# Altium schematic symbol library Modulebit_open_V0.4.SCHLIB: 40 symbols
Pins are listed as number, name and electrical type; pins without a type are passive.

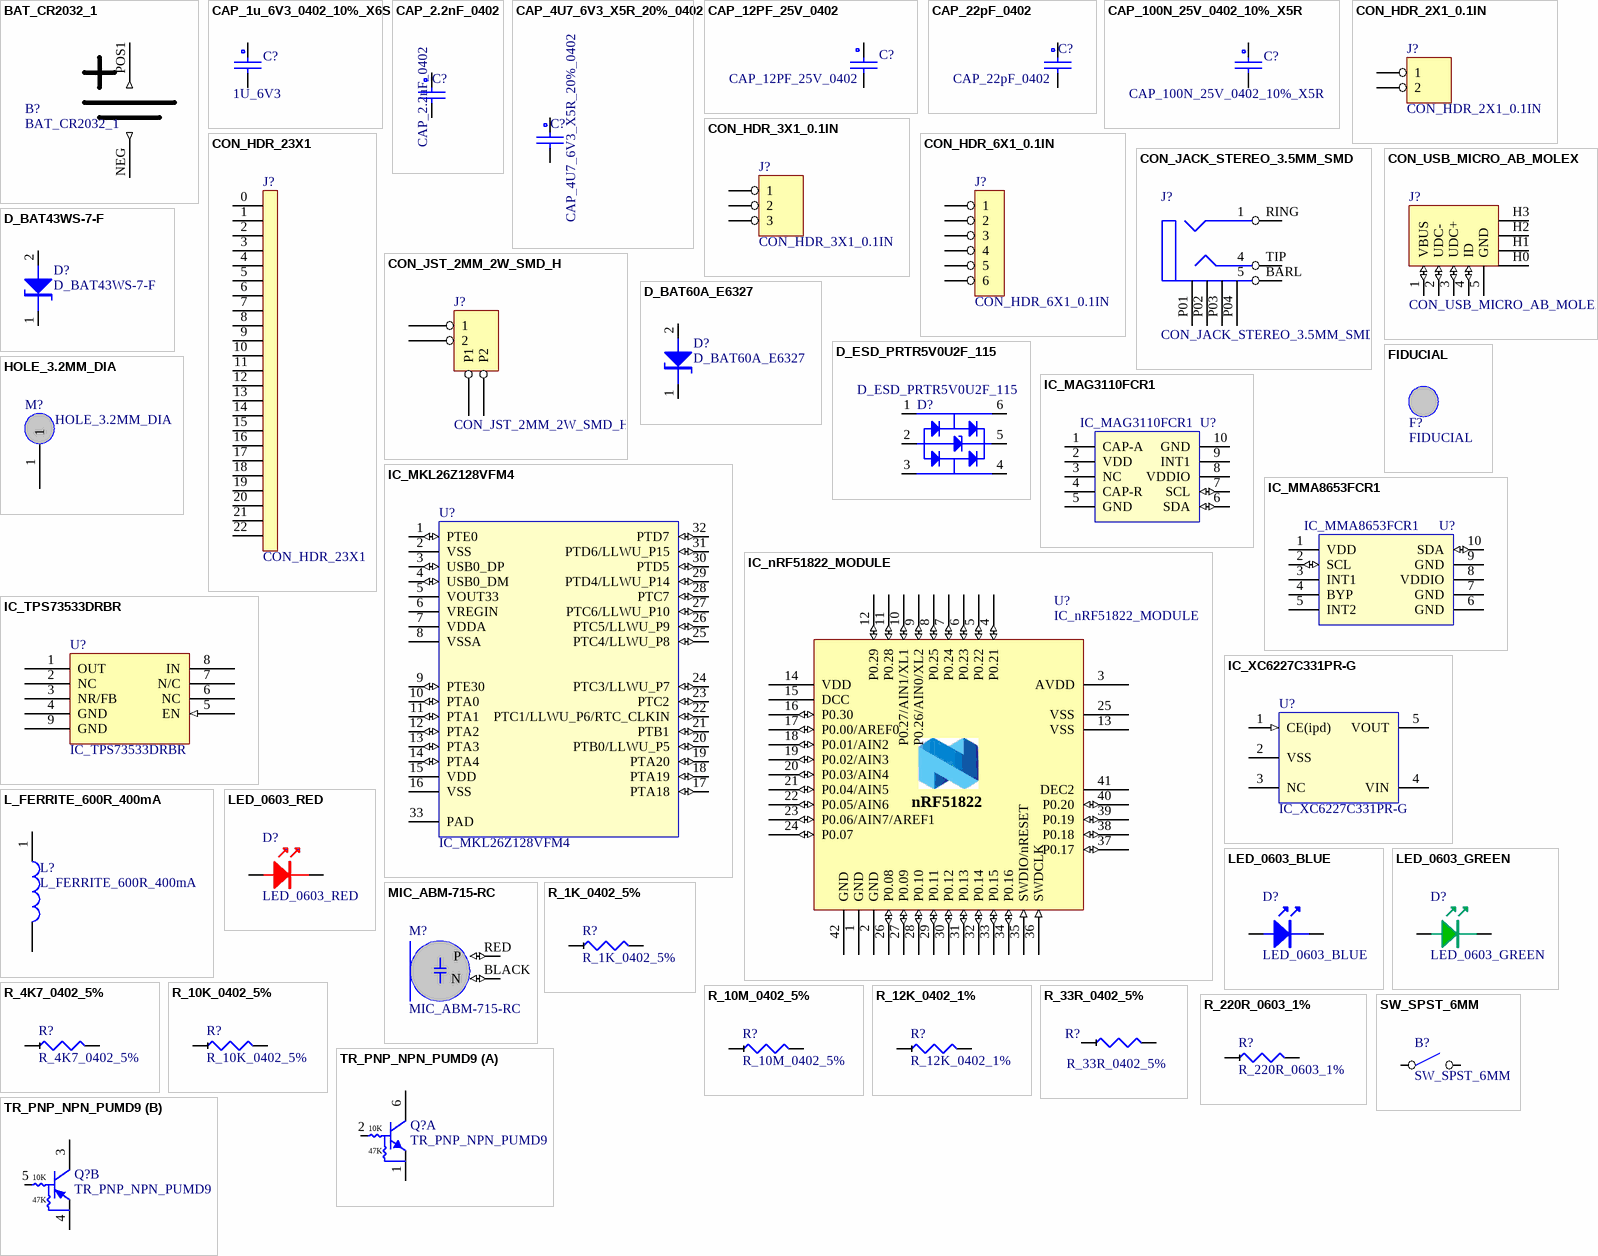
[diagram p0: symbols BAT_CR2032_1 to TR_PNP_NPN_PUMD9]

## BAT_CR2032_1
designator B?
CR2032 battery in holder; PART: CH7410-2032LF; MANUFACTURER: Takachi Electric Industrial; RS: 239-592; FARNELL: 2064724
footprint BAT_CR2032_CH7410-2032LF (PLASTIC CR2032 HOLDER)
pins: NEG (out), POS1 (out)
2 alternate drawings of the same symbol

## CAP_1u_6V3_0402_10%_X6S
designator C?, comment 1U_6V3
CAP_1u_6V3_0402_10%_X6S; MANUFACTURER: YAGEO; PART: CC0402KRX7R7BB104; FARNELL: 9402047RL; MOUSER: 603-CC402KRX7R7BB104; DIGIKEY: 311-1338-6-ND
footprint C_0402
pins: 1, 2
2 alternate drawings of the same symbol

## CAP_2.2nF_0402
designator C?
PART: GRM155R71H222KA01D; MANUFACTURER: MURATA; FARNELL: 1889208RL
footprint C_0402
pins: 1, 2
2 alternate drawings of the same symbol

## CAP_4U7_6V3_X5R_20%_0402
designator C?
PART: C1005X5R0J475M; MANUFACTURER: TDK; FARNELL: 1962109
footprint C_0805
footprint c_0402
pins: 1, 2
2 alternate drawings of the same symbol

## CAP_12PF_25V_0402
designator C?
FARNELL: 1414576
footprint C_0402
pins: 1, 2
2 alternate drawings of the same symbol

## CAP_22pF_0402
designator C?
CAP 0402 C0G 50V 22PF; PART: 04025A220JAT2A; MANUFACTURER: AVX; FARNELL: 1327634RL
footprint c_0402
pins: 1, 2
2 alternate drawings of the same symbol

## CAP_100N_25V_0402_10%_X5R
designator C?
PART: TMK105BJ104KV-F; MANUFACTURER: TAIYO YUDEN; FARNELL: 1611916
footprint C_0402
pins: 1, 2
2 alternate drawings of the same symbol

## CON_HDR_2X1_0.1IN
designator J?
2 PIN HEADER; MANUFACTURER: TE CONNECTIVITY / AMP; PART: 825433-2; FARNELL: 3417645
footprint CON_HDR_2X1
pins: 1, 2
2 alternate drawings of the same symbol

## CON_HDR_3X1_0.1IN
designator J?
3 PIN HEADER; MANUFACTURER: MOLEX; FARNELL: 9731083; PART: 22-03-2031
footprint CON_HDR_3X1
pins: 1, 2, 3
2 alternate drawings of the same symbol

## CON_HDR_6X1_0.1IN
designator J?
6 PIN HEADER; PART: 826629-6; MANUFACTURER: TE; FARNELL: 3418327
footprint CON_HDR_6X1
pins: 1, 2, 3, 4, 5, 6
2 alternate drawings of the same symbol

## CON_HDR_23X1
designator J?
0.1in HEADER STRIP 23X1; PART: TSW-123-07-T-S; MANUFACTURER: SAMTEC; FARNELL: 2035705
footprint CON_HDR_23X1 (Footprint not found)
footprint CON_HDR_8X2_POL
pins: 0 (power), 1 (power), 2 (power), 3, 4, 5, 6, 7, 8, 9, 10, 11, 12, 13, 14, 15, 16, 17, 18, 19, 20, 21, 22
2 alternate drawings of the same symbol

## CON_JACK_STEREO_3.5MM_SMD
designator J?
3.5 MM STEREO SMT JACK SOCKET SMD; PART: 1503 03; MANUFACTURER: LUMBERG; FARNELL: 1216980
footprint CON_JACK_STEREO_3.5MM_SMT (CON_JACK_STEREO_SMT)
pins: BARL, P01, P02, P03, P04, RING, TIP
2 alternate drawings of the same symbol
text: 1; 4; 5

## CON_JST_2MM_2W_SMD_H
designator J?
2 PIN 2MM SMT JST  CONNECTOR; PART: S2B-PH-SM4-TB(LF)(SN); MANUFACTURER: JST; DIGIKEY: 455-1749-1-ND; FARNELL: 9492615
footprint CON_JST_S2B-PH-SM4-TB (Footprint not found)
pins: 1, 2, P1, P2
2 alternate drawings of the same symbol

## CON_USB_MICRO_AB_MOLEX
designator J?
USB Micro-AB socket Molex 47589-0001; RS: 702-5488; Farnell: 156-8023; PART: 47589-0001; MANUFACTURER: Molex
footprint CON_USB_MICRO_AB_MOLEX (USB Micro-AB socket Molex 47589-0001)
pins: 1 VBUS (io), 2 UDC- (io), 3 UDC+ (io), 4 ID (io), 5 GND (power), H0 (power), H1 (power), H2 (power), H3 (power)

## D_BAT43WS-7-F
designator D?
Schottky 200mA 30V 0.5uA@25Vr; MANUFACTURER: Diodes Incorporated; RS: 751-3364P; FARNELL: 2305998; PART: BAT43WS-7-F; DIGIKEY: BAT43WS-FDICT-ND; MOUSER: 621-BAT43WS-F
footprint SOD323 (Footprint not found)
pins: 1 K, 2 A
2 alternate drawings of the same symbol

## D_BAT60A_E6327
designator D?
3A Schottky diode with extreme low V  F drop (typ. 0.12V at IF = 10mA); MANUFACTURER: INFINEON; PART: BAT 60A E6327; FARNELL: 2432679RL
footprint SOD323 (Footprint not found)
pins: 1 K, 2 A
2 alternate drawings of the same symbol

## D_ESD_PRTR5V0U2F_115
designator D?
Ultra low capacitance double rail-to-rail ESD protection; MANUFACTURER: NXP; FARNELL: 2459738; PART: PRTR5V0U2F_115
footprint SOT886
pins: 1, 2, 3, 4, 5, 6
2 alternate drawings of the same symbol

## FIDUCIAL
designator F?
FIDUCIAL - NO CONNECT; MANUFACTURER: PCB FEATURE; Text Field1: NOT A PART; NOFIT: *; FARNELL: NONE; PART: PCB FEATURE
footprint FIDUCIAL_OV (Fiducial for the overlord)
footprint FIDUCIAL_DIAG (Fiducial for the overlord)
pins: 1
2 alternate drawings of the same symbol

## HOLE_3.2MM_DIA
designator M?  (no BOM)
HOLE, 3.2MM DIA FINISHED
footprint HOLE_3.2MM_DIA
pins: 1
2 alternate drawings of the same symbol

## IC_MAG3110FCR1
designator U?
Three-Axis Digital  Magnetometer; MANUFACTURER: FREESCALE; RS: 750-0835; PART: MAG3110FCR1
footprint IC_QFN40P200X200X85-10M (Footprint not found)
pins: 1 CAP-A, 2 VDD (power), 3 NC, 4 CAP-R, 5 GND (power), 6 SDA (io), 7 SCL (io), 8 VDDIO (power), 9 INT1 (oc), 10 GND (power)

## IC_MKL26Z128VFM4
designator U?
32bit ARM Cortex M0+ Microcontroller 48MHz 128 kB Flash 32-Pin QFN; MANUFACTURER: NXP; RS: 818-1255; PART: MKL26Z128VFM4
footprint IC_QFN50P500X500X100-32N (QFN, 32-Leads, Body 5.2x5.2mm (max), Pitch 0.50mm, IPC Medium Density)
pins: 1 PTE0 (io), 2 VSS (power), 3 USB0_DP (io), 4 USB0_DM (io), 5 VOUT33 (power), 6 VREGIN (power), 7 VDDA (power), 8 VSSA (power), 9 PTE30 (io), 10 PTA0 (io), 11 PTA1 (io), 12 PTA2 (io), 13 PTA3 (io), 14 PTA4 (io), 15 VDD (power), 16 VSS (power), 17 PTA18 (io), 18 PTA19 (io), 19 PTA20 (io), 20 PTB0/LLWU_P5 (io), 21 PTB1 (io), 22 PTC1/LLWU_P6/RTC_CLKIN (io), 23 PTC2 (io), 24 PTC3/LLWU_P7 (io), 25 PTC4/LLWU_P8 (io), 26 PTC5/LLWU_P9 (io), 27 PTC6/LLWU_P10 (io), 28 PTC7 (io), 29 PTD4/LLWU_P14 (io), 30 PTD5 (io), 31 PTD6/LLWU_P15 (io), 32 PTD7 (io), 33 PAD (power)

## IC_MMA8653FCR1
designator U?
3-Axis 10-bit Digital  Accelerometer; MANUFACTURER: FREESCALE; RS: 801-6882; PART: MMA8653FCR1
footprint IC_QFN40P200X200X85-10M (QFN, 10-Leads, Body 2.00x2.00mm, Pitch 0.40mm, IPC Low Density)
pins: 1 VDD (power), 2 SCL (io), 3 INT1 (oc), 4 BYP, 5 INT2 (oc), 6 GND (power), 7 GND (power), 8 VDDIO (power), 9 GND (power), 10 SDA (io)

## IC_nRF51822_MODULE
designator U?
RF System on a Chip - SoC 2.4GHz BT low Energy 256KB Flash 16KB Ram; MANUFACTURER: RAYTAC; PART: MDBT40-256V3; FARNELL: ???
footprint IC_nRF51822_MODULE (Footprint not found)
footprint IC_nRF51822_MODULE_PASTE (Footprint not found)
pins: 1 GND (power), 2 GND (power), 3 AVDD (power), 4 P0.21 (io), 5 P0.22 (io), 6 P0.23 (io), 7 P0.24 (io), 8 P0.25 (io), 9 P0.26/AIN0/XL2 (io), 10 P0.27/AIN1/XL1 (io), 11 P0.28 (io), 12 P0.29 (io), 13 VSS (power), 14 VDD (power), 15 DCC (power), 16 P0.30 (io), 17 P0.00/AREF0 (io), 18 P0.01/AIN2 (io), 19 P0.02/AIN3 (io), 20 P0.03/AIN4 (io), 21 P0.04/AIN5 (io), 22 P0.05/AIN6 (io), 23 P0.06/AIN7/AREF1 (io), 24 P0.07 (io), 25 VSS (power), 26 P0.08 (io), 27 P0.09 (io), 28 P0.10 (io), 29 P0.11 (io), 30 P0.12 (io), 31 P0.13 (io), 32 P0.14 (io), 33 P0.15 (io), 34 P0.16 (io), 35 SWDIO/nRESET (in), 36 SWDCLK (in), 37 P0.17 (io), 38 P0.18 (io), 39 P0.19 (io), 40 P0.20 (io), 41 DEC2 (power), 42 GND (power)
text: nRF51822

## IC_TPS73533DRBR
designator U?
TPS735 500-mA 3V3, Low Quiescent Current, Ultra-Low Noise, High PSRR,  Low-Dropout Linear Regulator; MANUFACTURER: TI; PART: TPS73533DRBR; DIGIKEY: 296-39485-1-ND; FARNELL: 2075415; MOUSER: 595-TPS73533DRBR
footprint IC_QFN65P300X300X100-8M-TI (QFN, 8-Leads, Body 3.0x3.0mm (max), Pitch 0.65mm, IPC Low Density)
pins: 1 OUT (power), 2 NC, 3 NR/FB, 4 GND (power), 5 EN (in), 6 NC, 7 N/C, 8 IN (power), 9 GND (power)
2 alternate drawings of the same symbol

## IC_XC6227C331PR-G
designator U?
Linear Voltage Regulator IC Positive Fixed 1 Output 3.3V 700mA SOT-89-5; MANUFACTURER: TOREX; PART: XC6227C331PR-G; DIGIKEY: 893-1175-1-ND
footprint SOT895 (SOT-895)
pins: 1 CE(ipd) (in), 2 VSS (power), 3 NC, 4 VIN (power), 5 VOUT (power)

## L_FERRITE_600R_400mA
designator L?
FERRITE 600R 400mA 0.35R  IN 0603; MANUFACTURER: FAIR-RITE; PART: 2506036017Y0; FARNELL: 1653395RL
footprint L_0603
pins: 1, 2
2 alternate drawings of the same symbol

## LED_0603_BLUE
designator D?
MANUFACTURER: MULTICOMP; FARNELL: 1716770RL; PART: OVS-0603
footprint LED_0603
footprint LED_0603_BLUE
pins: A, K
2 alternate drawings of the same symbol

## LED_0603_GREEN
designator D?
MANUFACTURER: KINGBRIGHT; PART: KP-3216CGCK; FARNELL: 2290333
footprint LED_0603_GREEN
pins: A, K
2 alternate drawings of the same symbol

## LED_0603_RED
designator D?
LED RED 0603; MANUFACTURER: KINGBRIGHT; PART: KP-1608SURC; FARNELL: 8529868RL
footprint LED_0603_RED
pins: A, K
2 alternate drawings of the same symbol

## MIC_ABM-715-RC
designator M?
PRO SIGNAL  ABM-715-RC  ELECTRET MICROPHONE OMNI LEADS; MANUFACTURER: PRO SIGNAL; FARNELL: 2066501; PART: ABM-715-RC
footprint MIC_ABM-715-RC (Footprint not found)
pins: BLACK N (io), RED P (io)

## R_1K_0402_5%
designator R?
FARNELL_ROHS: *; FARNELL: 1358043
footprint R_0402
pins: 1, 2
2 alternate drawings of the same symbol

## R_4K7_0402_5%
designator R?
Text Field1: 3898635; FARNELL_ROHS: *
footprint R_0402
pins: 1, 2
2 alternate drawings of the same symbol

## R_10K_0402_5%
designator R?
FARNELL_ROHS: *; FARNELL: 1358069
footprint R_0402
pins: 1, 2
2 alternate drawings of the same symbol

## R_10M_0402_5%
designator R?
PART: RC0603FR-0710ML; MANUFACTURER: YAGEO; FARNELL: 9238964RL
footprint R_0402
pins: 1, 2
2 alternate drawings of the same symbol

## R_12K_0402_1%
designator R?
FARNELL_ROHS: 2447104RL; FARNELL: 2447104RL
footprint R_0402
pins: 1, 2
2 alternate drawings of the same symbol

## R_33R_0402_5%
designator R?
Text Field1: 3898507; FARNELL_ROHS: *
footprint R_0402
pins: 1, 2
2 alternate drawings of the same symbol

## R_220R_0603_1%
designator R?
Text Field1: 9330801; Text Field2: vnr160; Text Field3: Yes; Text Field4: 502-468-00-00-RES*-BP; FARNELL_ROHS: *
footprint R_0603
pins: 1, 2
2 alternate drawings of the same symbol

## SW_SPST_6MM
designator B?
SPST SWITCH 6MM; PART: FSM4JSMA; MANUFACTURER: TE CONNECTIVITY / ALCOSWITCH; FARNELL: 3801305
footprint SW_FSM4JSMA (Footprint not found)
pins: 1, 2
2 alternate drawings of the same symbol

## TR_PNP_NPN_PUMD9
designator Q?
NXP - PUMD9 - TRANSISTOR, DIGITAL, NPN+PNP SOT-363; PackageReference: SOT363; Code_IPC: SOT363-6; FARNELL: 2439782; PART: PUMD9; MANUFACTURER: NXP
footprint SOT363_N (SOT363, 6-Leads, Body 2x1.3mm, Pitch 0.65mm, Lead Span 2.1mm, IPC Medium Density)
footprint SOT363_L (SOT363, 6-Leads, Body 2x1.3mm, Pitch 0.65mm, Lead Span 2.1mm, IPC High Density)
footprint SOT363_M (SOT363, 6-Leads, Body 2x1.3mm, Pitch 0.65mm, Lead Span 2.1mm, IPC Low Density)
part A pins: 1 E, 2 B, 6 C
part B pins: 3 C, 4 E, 5 B
part A text: 10K; 47K
part B text: 10K; 47K

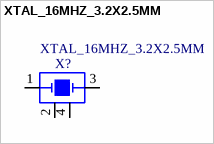
[diagram p1: symbol XTAL_16MHZ_3.2X2.5MM]

## XTAL_16MHZ_3.2X2.5MM
designator X?
CRYSTAL 16MHZ 20PF_3.2X2.5MM; MANUFACTURER: CTS-Frequency Controls; PART: 403C11E16M00000; DIGIKEY: CTX732CT-ND
footprint XTAL_3.2X2.5MM
pins: 1 X1, 2 G2, 3 X3, 4 G4
2 alternate drawings of the same symbol